# EAGLE library part LT1308 (library SteMarie)
LT1308A/LT1308B High Current, Micropower Single Cell, 600kHz DC/DC Converters DESCRIPTION The LT®1308A/LT1308B are micropower, fixed frequency step-up DC/DC converters that operate over a 1V to 10V input voltage range. They are improved versions of the LT1308 and are recommended for use in new designs. The LT1308A features automatic shifting to power saving Burst Mode operation at light loads and consumes just 140?A at no load. The LT1308B features continuous switching at light loads and operates at a quiescent current of 2.5mA. Both devices consume less than 1μA in shutdown. Low-battery detector accuracy is signifi antly tighter than the LT1308. The 200mV reference is specifi ed at ±2% at room and ±3% over temperature. The shutdown pin enables the device when it is tied to a 1V or higher source and does not need to be tied to VIN as on the LT1308. An internal VC clamp results in improved transient response and the switch voltage rating has been increased to 36V, enabling higher output voltage applications. The LT1308A/LT1308B are available in the 8-lead SO and the 14-lead TSSOP packages. FEATURES 5V at 1A from a Single Li-Ion Cell 5V at 800mA in SEPIC Mode from Four NiCd Cells Fixed Frequency Operation: 600kHz Boost Converter Outputs up to 34V Starts into Heavy Loads Automatic Burst Mode? Operation at Light Load (LT1308A) Continuous Switching at Light Loads (LT1308B) Low VCESAT Switch: 300mV at 2A Pin-for-Pin Upgrade Compatible with LT1308 Lower Quiescent Current in Shutdown: 1μA (Max) Improved Accuracy Low-Battery Detector Reference: 200mV ±2% Available in 8-Lead SO and 14-Lead TSSOP Packages APPLICATIONS GSM/CDMA Phones Digital Cameras LCD Bias Supplies Answer-Back Pagers GPS Receivers Battery Backup Supplies Handheld Computers Source: Linear Technologies Product Page <http://www.linear.com/pc/productDetail.jsp?navId=H0,C1,C1003,C1042,C1035,P1627>
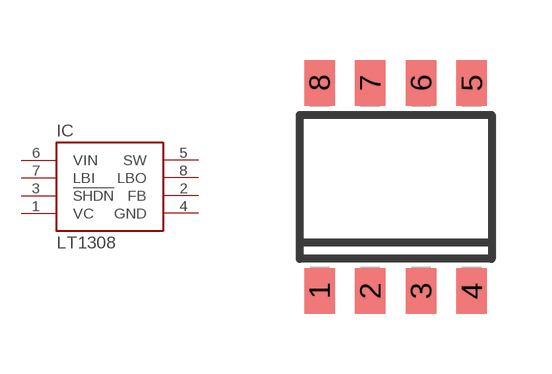
[diagram p8: symbol with the pads of S8; footprint S8]

Designator prefix IC

## LT1308ACS8 (BURSTMODECURRENTLIMIT: 400mA; TEMPRANGE: 0°C to 70°C), LT1308AIS8 (BURSTMODECURRENTLIMIT: 400mA; TEMPRANGE: 40°C to 85°C), LT1308BCS8 (TEMPRANGE: 0°C to 70°C), LT1308BIS8 (TEMPRANGE: 40°C to 85°C)  [S8]
1  VC  pas
2  FB  pas
3  !SHDN  in
4  GND  sup
5  SW  pas
6  VIN  sup
7  LBI  in
8  LBO  oc

## Footprint S8 (pad centres in mm)
8-Lead Plastic Small Outline Narrow .150 Inch Source: http://cds.linear.com/docs/Datasheet/623012fb.pdf
smd 0.762 x 1.143: 1 -1.905,-2.6; 2 -0.635,-2.6; 3 0.635,-2.6; 4 1.905,-2.6; 5 1.905,2.6; 6 0.635,2.6; 7 -0.635,2.6; 8 -1.905,2.6